# EAGLE library part MA38 (library X893)
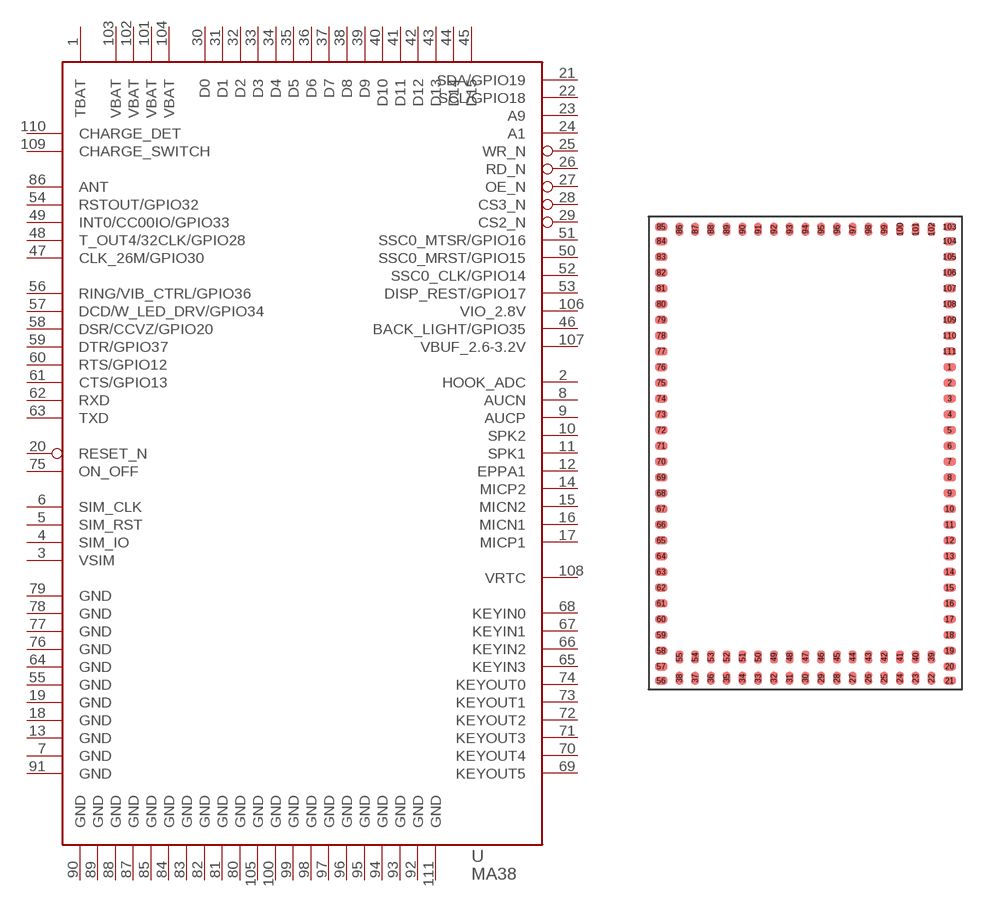
[diagram p35: symbol with the pads of MA38; footprint MA38]

Designator prefix U

## MA38  [MA38]
1  TBAT  pas
2  HOOK_ADC  pas
3  VSIM  pas
4  SIM_IO
5  SIM_RST  out
6  SIM_CLK  out
7  GND  sup
8  AUCN  pas
9  AUCP  pas
10  SPK2  pas
11  SPK1  pas
12  EPPA1  pas
13  GND  sup
14  MICP2
15  MICN2  pas
16  MICN1  pas
17  MICP1  pas
18  GND  sup
19  GND  sup
20  RESET_N  in
21  SDA/GPIO19
22  SCL/GPIO18
23  A9
24  A1
25  WR_N
26  RD_N
27  OE_N
28  CS3_N
29  CS2_N
30  D0
31  D1
32  D2
33  D3
34  D4
35  D5
36  D6
37  D7
38  D8
39  D9
40  D10
41  D11
42  D12
43  D13
44  D14
45  D15
46  BACK_LIGHT/GPIO35
47  CLK_26M/GPIO30
48  T_OUT4/32CLK/GPIO28
49  INT0/CC00IO/GPIO33
50  SSC0_MRST/GPIO15
51  SSC0_MTSR/GPIO16
52  SSC0_CLK/GPIO14
53  DISP_REST/GPIO17
54  RSTOUT/GPIO32
55  GND  sup
56  RING/VIB_CTRL/GPIO36  out
57  DCD/W_LED_DRV/GPIO34  out
58  DSR/CCVZ/GPIO20  out
59  DTR/GPIO37  in
60  RTS/GPIO12  out
61  CTS/GPIO13  in
62  RXD  in
63  TXD  out
64  GND  sup
65  KEYIN3
66  KEYIN2
67  KEYIN1
68  KEYIN0
69  KEYOUT5
70  KEYOUT4
71  KEYOUT3
72  KEYOUT2
73  KEYOUT1
74  KEYOUT0
75  ON_OFF
76  GND  sup
77  GND  sup
78  GND  sup
79  GND  sup
80  GND  sup
81  GND  sup
82  GND  sup
83  GND  sup
84  GND  sup
85  GND  sup
86  ANT  pas
87  GND  sup
88  GND  sup
89  GND  sup
90  GND  sup
91  GND  sup
92  GND  sup
93  GND  sup
94  GND  sup
95  GND  sup
96  GND  sup
97  GND  sup
98  GND  sup
99  GND  sup
100  GND  sup
101  VBAT  pwr
102  VBAT  pwr
103  VBAT  pwr
104  VBAT  pwr
105  GND  sup
106  VIO_2.8V
107  VBUF_2.6-3.2V
108  VRTC
109  CHARGE_SWITCH  pas
110  CHARGE_DET  pas
111  GND  sup

## Footprint MA38 (pad centres in mm)
smd 0.8 x 0.5: 1 9.15,5.45; 2 9.15,4.45; 3 9.15,3.45; 4 9.15,2.45; 5 9.15,1.45; 6 9.15,0.45; 7 9.15,-0.55; 8 9.15,-1.55; 9 9.15,-2.55; 10 9.15,-3.55; 11 9.15,-4.55; 12 9.15,-5.55; 13 9.15,-6.55; 14 9.15,-7.55; 15 9.15,-8.55; 16 9.15,-9.55; 17 9.15,-10.55; 18 9.15,-11.55; 19 9.15,-12.55; 20 9.15,-13.55; 21 9.15,-14.45; 56 -9.15,-14.45; 57 -9.15,-13.55; 58 -9.15,-12.55; 59 -9.15,-11.55; 60 -9.15,-10.55; 61 -9.15,-9.55; 62 -9.15,-8.55; 63 -9.15,-7.55; 64 -9.15,-6.55; 65 -9.15,-5.55; 66 -9.15,-4.55; 67 -9.15,-3.55; 68 -9.15,-2.55; 69 -9.15,-1.55; 70 -9.15,-0.55; 71 -9.15,0.45; 72 -9.15,1.45; 73 -9.15,2.45; 74 -9.15,3.45; 75 -9.15,4.45; 76 -9.15,5.45; 77 -9.15,6.45; 78 -9.15,7.45; 79 -9.15,8.45; 80 -9.15,9.45; 81 -9.15,10.45; 82 -9.15,11.45; 83 -9.15,12.45; 84 -9.15,13.45; 85 -9.15,14.35; 103 9.15,14.35; 104 9.15,13.45; 105 9.15,12.45; 106 9.15,11.45; 107 9.15,10.45; 108 9.15,9.45; 109 9.15,8.45; 110 9.15,7.45; 111 9.15,6.45
smd 0.5 x 0.8: 22 8,-14.3; 23 7,-14.3; 24 6,-14.3; 25 5,-14.3; 26 4,-14.3; 27 3,-14.3; 28 2,-14.3; 29 1,-14.3; 30 0,-14.3; 31 -1,-14.3; 32 -2,-14.3; 33 -3,-14.3; 34 -4,-14.3; 35 -5,-14.3; 36 -6,-14.3; 37 -7,-14.3; 38 -8,-14.3; 39 8,-12.95; 40 7,-12.95; 41 6,-12.95; 42 5,-12.95; 43 4,-12.95; 44 3,-12.95; 45 2,-12.95; 46 1,-12.95; 47 0,-12.95; 48 -1,-12.95; 49 -2,-12.95; 50 -3,-12.95; 51 -4,-12.95; 52 -5,-12.95; 53 -6,-12.95; 54 -7,-12.95; 55 -8,-12.95; 86 -8,14.2; 87 -7,14.2; 88 -6,14.2; 89 -5,14.2; 90 -4,14.2; 91 -3,14.2; 92 -2,14.2; 93 -1,14.2; 94 0,14.2; 95 1,14.2; 96 2,14.2; 97 3,14.2; 98 4,14.2; 99 5,14.2; 100 6,14.2; 101 7,14.2; 102 8,14.2